# EAGLE library part SN74LVC2G17 (library SKAARHOJ)
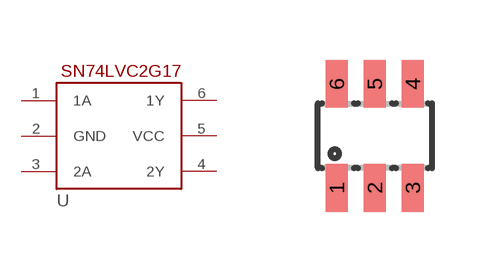
[diagram p92: symbol with the pads of SOT23-6L; footprint SOT23-6L]

Designator prefix -

## SN74LVC2G17  [SOT23-6L]
1  1A  in
2  GND  pwr
3  2A  in
4  2Y  out
5  VCC  pwr
6  1Y  out

## Footprint SOT23-6L (pad centres in mm)
Small Outline Transistor
smd 0.55 x 1.2: 1 -0.95,-1.3; 2 0,-1.3; 3 0.95,-1.3; 4 0.95,1.3; 5 0,1.3; 6 -0.95,1.3